# EAGLE library part TPSS110A (library RASEagleLib)
TPS2110A Autoswitching Power Mux
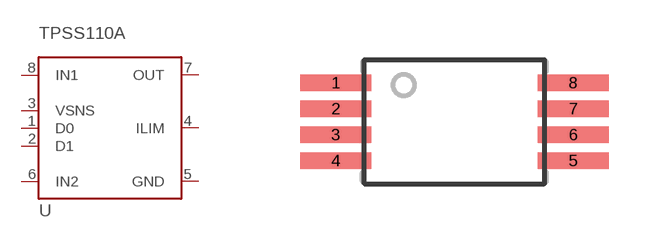
[diagram p2: symbol with the pads of TSSOP-8; footprint TSSOP-8]

Designator prefix U

## TPSS110A  [TSSOP-8]
1  D0
2  D1
3  VSNS
4  ILIM
5  GND
6  IN2
7  OUT
8  IN1

## Footprint TSSOP-8 (pad centres in mm)
smd 1.78 x 0.42: 1 -2.97,0.975; 2 -2.97,0.325; 3 -2.97,-0.325; 4 -2.97,-0.975; 5 2.97,-0.975; 6 2.97,-0.325; 7 2.97,0.325; 8 2.97,0.975